# EAGLE library part ATTINY828R-AU (library Custom)
IC, MCU, 8KB, FLASH, 20MHZ, TQFP-32
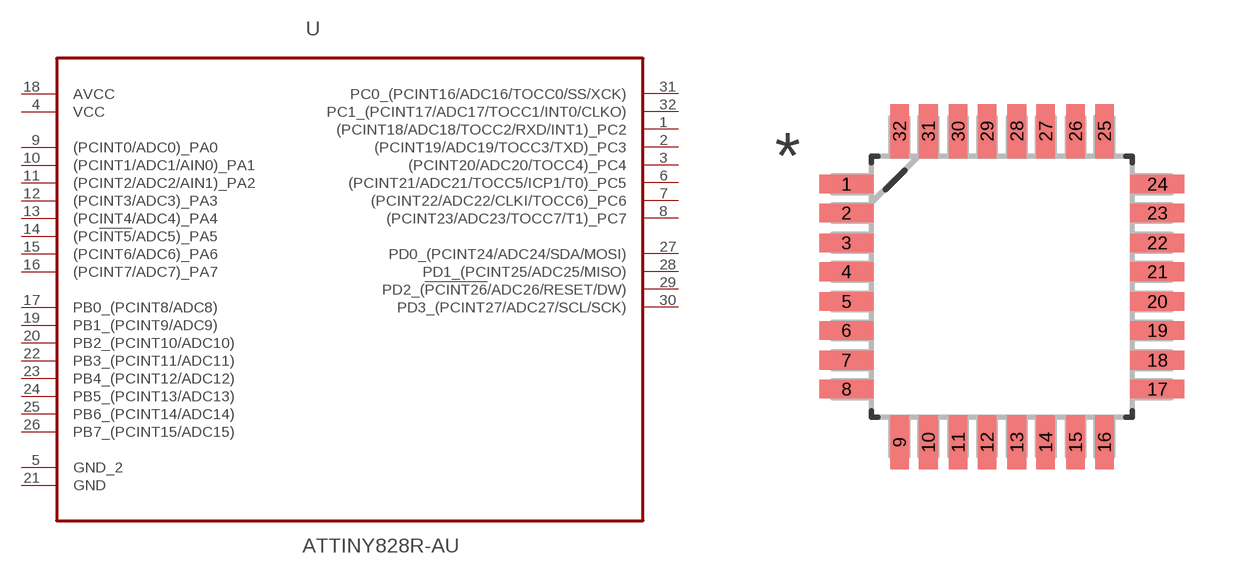
[diagram p3: symbol with the pads of QFP80P900X900X120-32N; footprint QFP80P900X900X120-32N]

Designator prefix U

## ATTINY828R-AU (MPN: ATTINY828R-AU; OC_FARNELL: 2249850; OC_NEWARK: Unknown; PACKAGE: TQFP-32; SUPPLIER: ATMEL)  [QFP80P900X900X120-32N]
1  (PCINT18/ADC18/TOCC2/RXD/INT1)_PC2
2  (PCINT19/ADC19/TOCC3/TXD)_PC3
3  (PCINT20/ADC20/TOCC4)_PC4
4  VCC  pwr
5  GND_2  pas
6  (PCINT21/ADC21/TOCC5/ICP1/T0)_PC5
7  (PCINT22/ADC22/CLKI/TOCC6)_PC6
8  (PCINT23/ADC23/TOCC7/T1)_PC7
9  (PCINT0/ADC0)_PA0
10  (PCINT1/ADC1/AIN0)_PA1
11  (PCINT2/ADC2/AIN1)_PA2
12  (PCINT3/ADC3)_PA3
13  (PCINT4/ADC4)_PA4
14  (PC!INT5!/ADC5)_PA5
15  (PCINT6/ADC6)_PA6
16  (PCINT7/ADC7)_PA7
17  PB0_(PCINT8/ADC8)
18  AVCC  pwr
19  PB1_(PCINT9/ADC9)
20  PB2_(PCINT10/ADC10)
21  GND  pas
22  PB3_(PCINT11/ADC11)
23  PB4_(PCINT12/ADC12)
24  PB5_(PCINT13/ADC13)
25  PB6_(PCINT14/ADC14)
26  PB7_(PCINT15/ADC15)
27  PD0_(PCINT24/ADC24/SDA/MOSI)
28  PD1_(PCINT25/ADC25/MISO)
29  PD2_(!PCINT26!/ADC26/RESET/DW)
30  PD3_(PCINT27/ADC27/SCL/SCK)
31  PC0_(PCINT16/ADC16/TOCC0/SS/XCK)
32  PC1_(PCINT17/ADC17/TOCC1/INT0/CLKO)

## Footprint QFP80P900X900X120-32N (pad centres in mm)
smd 1.473 x 0.508: 1 -4.242,2.794; 2 -4.242,2.007; 3 -4.242,1.194; 4 -4.242,0.406; 5 -4.242,-0.406; 6 -4.242,-1.194; 7 -4.242,-2.007; 8 -4.242,-2.794; 17 4.242,-2.794; 18 4.242,-2.007; 19 4.242,-1.194; 20 4.242,-0.406; 21 4.242,0.406; 22 4.242,1.194; 23 4.242,2.007; 24 4.242,2.794
smd 0.508 x 1.473: 9 -2.794,-4.242; 10 -2.007,-4.242; 11 -1.194,-4.242; 12 -0.406,-4.242; 13 0.406,-4.242; 14 1.194,-4.242; 15 2.007,-4.242; 16 2.794,-4.242; 25 2.794,4.242; 26 2.007,4.242; 27 1.194,4.242; 28 0.406,4.242; 29 -0.406,4.242; 30 -1.194,4.242; 31 -2.007,4.242; 32 -2.794,4.242